# Altium footprint library PcbLib1.PcbLib: 11 footprints
Each footprint in its own frame and in the unit in brackets; x right, y up, seen from the top. Pads: shape width x height; smd on the part's side, far side on the other; paste and mask are expansions set on the pad; w line width, h text height; cw(c..) or ccw(c..) is an arc to the next point about the centre after c.
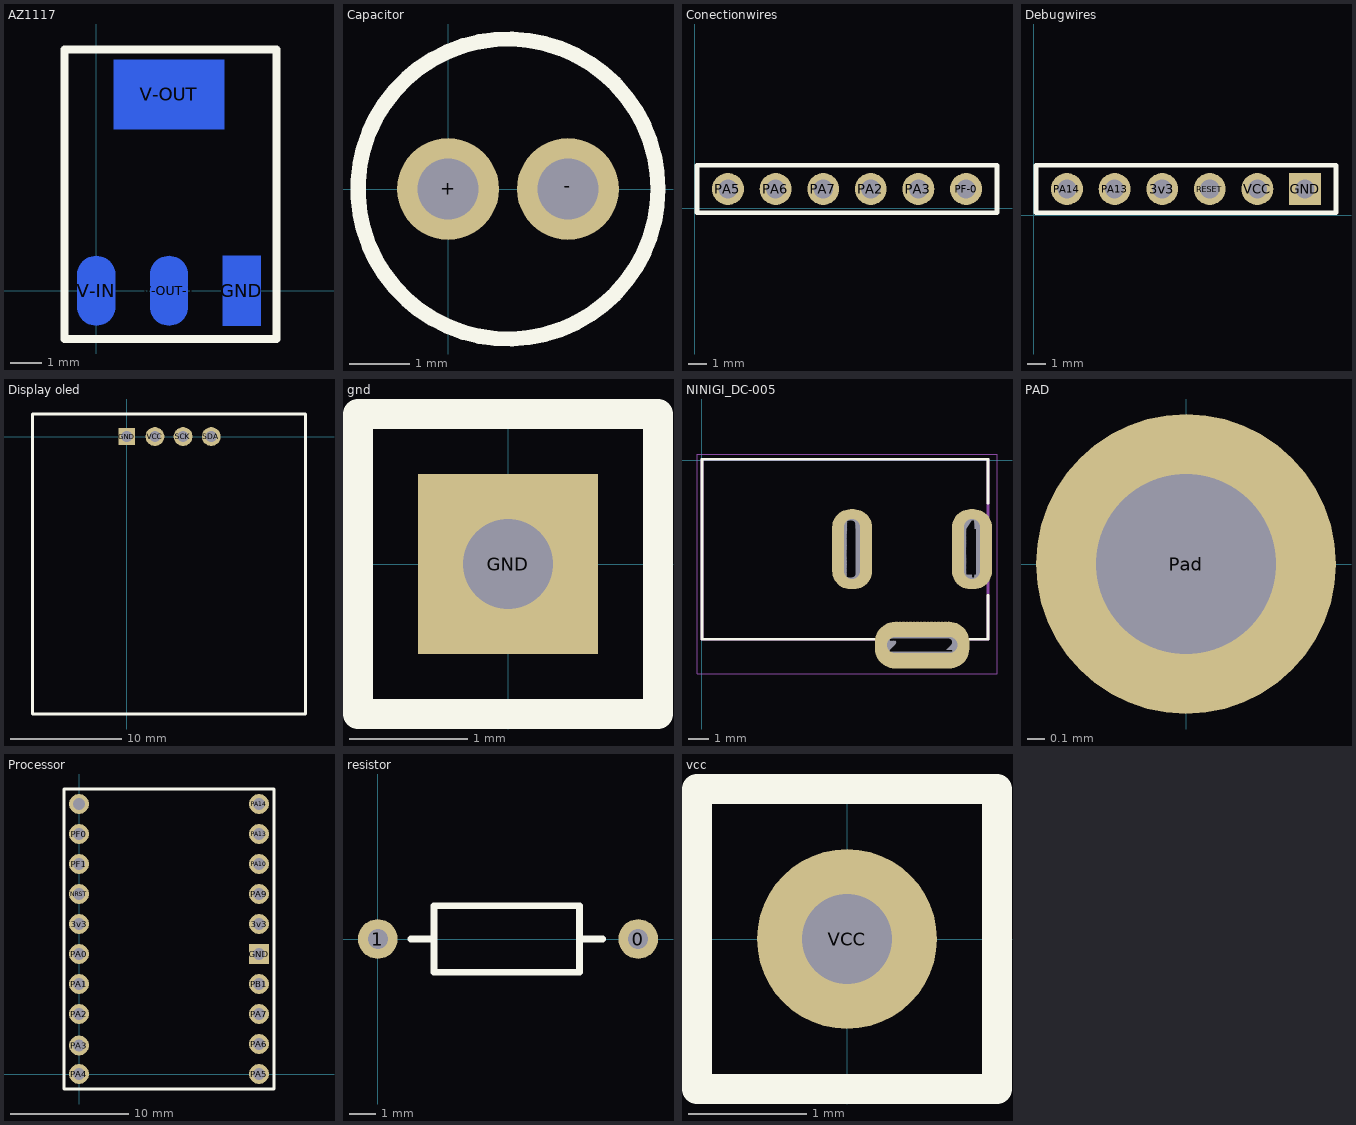
[diagram p0: the footprints below, top view; thin cyan lines are the x and y axes]

## AZ1117 [mm]
pads (4):
  rect 1.2x2.2 smd far side: GND(4.6,0)
  oval 1.2x2.2 smd far side: V-IN(0,0) V-OUT-1(2.3,0)
  rect 3.5x2.2 smd far side: V-OUT(2.3,6.2)
Top Overlay:
  lines w0.254: -1,-1.524 5.7,-1.524 5.7,5.8 5.7,7.61 5.69,7.62 -1,7.62 -1,-1.524
3D body "ncp1117st50t3g.stp": height -0.5, standoff -2.18, extent -0.836,-0.426 5.664,6.573

## Capacitor [mm]
pads (2):
  round 1.7 hole 1.016: +(0,0) -(2,0)
Top Overlay:
  circle w0.254: c1,0 r2.502
3D body "CircuitWorks-ELECTROLITIC CAPACITOR RADIAL 5X11.STEP": height 11, standoff -2.5, extent -1.5,-2.515 3.5,2.485

## Conectionwires [mm]
pads (6):
  round 1.7 hole 1.02: PA2(9.398,1.016) PA3(11.938,1.016) PA5(1.778,1.016) PA6(4.318,1.016) PA7(6.858,1.016) PF-0(14.478,1.016)
Top Overlay:
  lines w0.254: 15.113,-0.254 16.129,-0.254 16.129,2.286 7.62,2.286 0.127,2.286 0.127,-0.254 15.24,-0.254
3D body "Header_Fem_1X6.STEP": height 8.5, standoff -3.2, extent 0,-0.152 15.74,2.388

## Debugwires [mm]
pads (6):
  round 1.7 hole 1.02: 3v3(6.858,1.397) PA13(4.318,1.397) PA14(1.778,1.397) RESET(9.398,1.397) VCC(11.938,1.397)
  rect 1.7x1.7 hole 1.02: GND(14.478,1.397)
Top Overlay:
  lines w0.254: 16.129,1.905 16.129,2.667 5.207,2.667 0.127,2.667 0.127,0.127 16.129,0.127 16.129,2.159
3D body "Header_Fem_1X6.STEP": height 8.5, standoff -3.2, extent 0.182,0.254 15.922,2.794

## Display oled [mm] "24.7x27"
pads (4):
  rect 1.524x1.524 hole 1.02: GND(0,0)
  round 1.7 hole 1.02: SCK(5.08,0) SDA(7.62,0) VCC(2.54,0)
Top Overlay:
  lines w0.254: -8.509,-25.019 -8.509,2.032 3.81,2.032 16.129,2.032 16.129,-25.019 15.875,-25.019 -8.509,-25.019
3D body "Display_0.96_pol.STEP": height 5.47, standoff -5.37, extent -9.464,-25.549 17.236,2.311

## gnd [mil]
pads (1):
  rect 60x60 hole 30: GND(0,0)
Top Overlay:
  lines w10: -50,-50 50,-50 50,50 -50,50 -50,-50

## NINIGI_DC-005 [mm]
pads (173):
  oval 2x2.35 hole 0.8: 2(9.667,-9.25) 2(9.738,-9.25) 2(9.81,-9.25) 2(9.882,-9.25) 2(9.946,-9.25) 2(10.018,-9.25) 2(10.09,-9.25) 2(10.162,-9.25) 2(10.225,-9.25) 2(10.297,-9.25) 2(10.369,-9.25) 2(10.441,-9.25) 2(10.505,-9.25) 2(10.577,-9.25) 2(10.649,-9.25) 2(10.721,-9.25) 2(10.784,-9.25) 2(10.856,-9.25) 2(10.928,-9.25) 2(11,-9.25) 2(11.064,-9.25) 2(11.135,-9.25) 2(11.207,-9.25) 2(11.279,-9.25) 2(11.343,-9.25) 2(11.415,-9.25) 2(11.487,-9.25) 2(11.559,-9.25) 2(11.622,-9.25) 2(11.694,-9.25) 2(11.766,-9.25) 2(11.838,-9.25) 2(11.902,-9.25) 2(11.974,-9.25) 2(12.046,-9.25) 2(12.118,-9.25) 2(12.181,-9.25) 2(12.253,-9.25) 2(12.329,-9.25) 2(12.355,-9.25) 2(12.38,-9.25)
  oval 2x1.8 hole 0.8: 3(7.518,-5.546) 3(7.518,-5.525) 3(7.518,-5.457) 3(7.518,-5.457) 3(7.518,-5.389) 3(7.518,-5.389) 3(7.518,-5.321) 3(7.518,-5.321) 3(7.518,-5.253) 3(7.518,-5.253) 3(7.518,-5.185) 3(7.518,-5.185) 3(7.518,-5.117) 3(7.518,-5.117) 3(7.518,-5.049) 3(7.518,-5.049) 3(7.518,-4.981) 3(7.518,-4.913) 3(7.518,-4.9) 3(7.518,-4.832) 3(7.518,-4.764) 3(7.518,-4.764) 3(7.518,-4.696) 3(7.518,-4.696) 3(7.518,-4.628) 3(7.518,-4.628) 3(7.518,-4.586) 3(7.518,-4.56) 3(7.518,-4.56) 3(7.518,-4.518) 3(7.518,-4.492) 3(7.518,-4.492) 3(7.518,-4.45) 3(7.518,-4.45) 3(7.518,-4.424) 3(7.518,-4.424) 3(7.518,-4.381) 3(7.518,-4.381) 3(7.518,-4.356) 3(7.518,-4.313) 3(7.518,-4.313) 3(7.518,-4.288) 3(7.518,-4.245) 3(7.518,-4.245) 3(7.518,-4.177) 3(7.518,-4.177) 3(7.518,-4.109) 3(7.518,-4.109) 3(7.518,-4.041) 3(7.518,-3.973) 3(7.518,-3.961) 3(7.518,-3.893) 3(7.518,-3.825) 3(7.518,-3.825) 3(7.518,-3.757) 3(7.518,-3.756) 3(7.518,-3.689) 3(7.518,-3.689) 3(7.518,-3.621) 3(7.518,-3.62) 3(7.518,-3.552) 3(7.518,-3.552) 3(7.518,-3.484) 3(7.518,-3.484) 3(7.518,-3.416) 3(7.518,-3.348) 4(13.513,-5.546) 4(13.513,-5.525) 4(13.513,-5.457) 4(13.513,-5.457) 4(13.513,-5.389) 4(13.513,-5.389) 4(13.513,-5.321) 4(13.513,-5.321) 4(13.513,-5.253) 4(13.513,-5.253) 4(13.513,-5.185) 4(13.513,-5.185) 4(13.513,-5.117) 4(13.513,-5.117) 4(13.513,-5.049) 4(13.513,-5.049) 4(13.513,-4.981) 4(13.513,-4.913) 4(13.513,-4.9) 4(13.513,-4.832) 4(13.513,-4.764) 4(13.513,-4.764) 4(13.513,-4.696) 4(13.513,-4.696) 4(13.513,-4.628) 4(13.513,-4.628) 4(13.513,-4.586) 4(13.513,-4.56) 4(13.513,-4.56) 4(13.513,-4.518) 4(13.513,-4.492) 4(13.513,-4.492) 4(13.513,-4.45) 4(13.513,-4.45) 4(13.513,-4.424) 4(13.513,-4.424) 4(13.513,-4.381) 4(13.513,-4.381) 4(13.513,-4.356) 4(13.513,-4.313) 4(13.513,-4.313) 4(13.513,-4.288) 4(13.513,-4.245) 4(13.513,-4.245) 4(13.513,-4.177) 4(13.513,-4.177) 4(13.513,-4.109) 4(13.513,-4.109) 4(13.513,-4.041) 4(13.513,-3.973) 4(13.513,-3.961) 4(13.513,-3.893) 4(13.513,-3.825) 4(13.513,-3.825) 4(13.513,-3.757) 4(13.513,-3.756) 4(13.513,-3.689) 4(13.513,-3.689) 4(13.513,-3.621) 4(13.513,-3.62) 4(13.513,-3.552) 4(13.513,-3.552) 4(13.513,-3.484) 4(13.513,-3.484) 4(13.513,-3.416) 4(13.513,-3.348)
Top Overlay:
  lines w0.127: 8.613,-8.95 0.013,-8.95 0.013,0.051 14.313,0.051 14.313,-2.15 ; 13.413,-8.95 14.313,-8.95 14.313,-6.75
Mechanical 13:
  lines w0.127: 0.013,-8.95 0.013,0.051 14.313,0.051 14.313,-8.95 0.013,-8.95
Mechanical 15:
  lines w0.05: -0.237,-10.68 -0.237,0.3 14.763,0.3 14.763,-10.68 -0.237,-10.68
3D body "JACK P4 PCI 2,5mm.STEP": height 11.2, standoff -3.9, extent 0.085,-9.373 14.021,0.077

## PAD [mm] "A simple pad to connections"
pads (1):
  round 1.7 hole 1.02: Pad(0,0)

## Processor [mm]
pads (20):
  round 1.7 hole 1.02: 3v3(0,12.7) 3v3(15.24,12.7) BOOT0(0,22.86) NRST(0,15.24) PA0(0,10.16) PA1(0,7.62) PA2(0,5.08) PA3(0,2.413) PA4(0,0) PA5(15.24,0) PA6(15.24,2.54) PA7(15.24,5.08) PA9(15.24,15.24) PA10(15.24,17.78) PA13(15.24,20.32) PA14(15.24,22.86) PB1(15.24,7.62) PF0(0,20.32) PF1(0,17.78)
  rect 1.7x1.7 hole 1.02: GND(15.24,10.16)
Top Overlay:
  lines w0.254: -1.27,-1.27 -1.27,3.81 -1.27,24.13 16.51,24.13 16.51,3.81 16.51,-1.27 12.065,-1.27 3.175,-1.27 -1.27,-1.27
3D body: height 1.27, standoff 0, extent -1.321,-1.219 16.51,24.079

## resistor [mil]
pads (2):
  round 60 hole 30: 0(393.7,0) 1(0,0)
Top Overlay:
  lines w10: 50,0 85,0 ; 305,0 340,0 ; 85,0 85,50 140,50 250,50 305,50 305,-50 250,-50 140,-50 85,-50 85,0
3D body: height 50, standoff -50, extent 180,-39 180,-39

## vcc [mil]
pads (1):
  round 60 hole 30: VCC(0,0)
Top Overlay:
  lines w10: -50,-50 -50,50 50,50 50,-50 -50,-50